# Altium schematic symbol library Inductors-0603.SchLib: 1 symbol
Pins are listed as number, name and electrical type; pins without a type are passive.

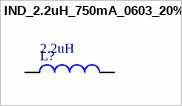
[diagram p0: symbol IND_2.2uH_750mA_0603_20%]

## IND_2.2uH_750mA_0603_20%
designator L?, comment 2.2uH
2.2uH 20% 750mA 0603; PartNumber: LQM18PZ2R2MCHD; Manufacturer: Murata; PackageReference: 0603; PackageDescription: 0603 (1608 metric); Mounting Technology: Surface Mount; Current: 750mA; Value: 2.2uH
simulation model INDUCTOR (Inductor)
signal-integrity model Inductor
footprint IND0603 (Chip Inductor, Body 1.55x0.85mm)
pins: 1, 2